# Altium schematic symbol library L293D.SchLib: 1 symbol
Pins are listed as number, name and electrical type; pins without a type are passive.

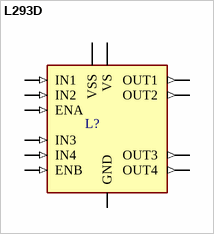
[diagram p0: symbol L293D]

## L293D
designator L?  (value not drawn)
footprint L293D
pins: ENA (in), ENB (in), GND, IN1 (in), IN2 (in), IN3 (in), IN4 (in), OUT1 (out), OUT2 (out), OUT3 (out), OUT4 (out), VS, VSS